# EAGLE library part ?M11B-SRSS-TB (library con-jst)
Disconnectable Crimp style connector, 1.0mm pitch 11 contacts
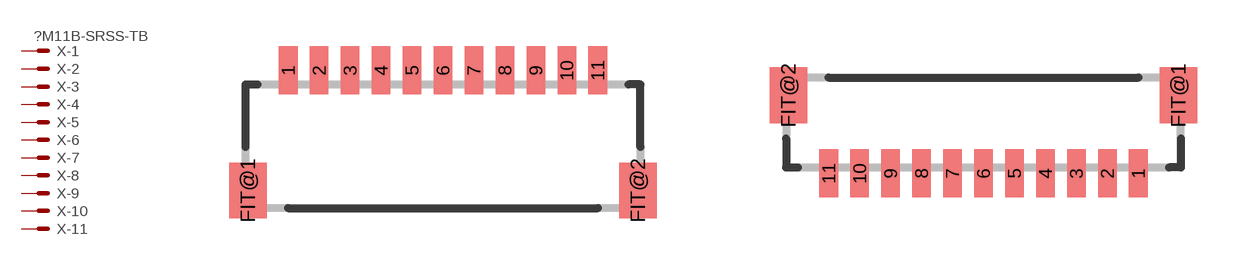
[diagram p27: symbol with the pads of SM11B-SRSS-TB; footprints SM11B-SRSS-TB, BM11B-SRSS-TB]

Designator prefix X; gates -1=KV -2=K -3=K -4=K -5=K -6=K -7=K -8=K -9=K -10=K -11=K

## SM11B-SRSS-TB  [SM11B-SRSS-TB]
1  -1:S  pas
2  -2:S  pas
3  -3:S  pas
4  -4:S  pas
5  -5:S  pas
6  -6:S  pas
7  -7:S  pas
8  -8:S  pas
9  -9:S  pas
10  -10:S  pas
11  -11:S  pas

## BM11B-SRSS-TB  [BM11B-SRSS-TB]
Pads as for SM11B-SRSS-TB

## Footprint SM11B-SRSS-TB (pad centres in mm)
Shrouded Header, side entry type
smd 0.6 x 1.55: 1 -5,2.975; 2 -4,2.975; 3 -3,2.975; 4 -2,2.975; 5 -1,2.975; 6 0,2.975; 7 1,2.975; 8 2,2.975; 9 3,2.975; 10 4,2.975; 11 5,2.975
smd 1.2 x 1.8: FIT@1 -6.3,-0.9; FIT@2 6.3,-0.9

## Footprint BM11B-SRSS-TB (pad centres in mm)
Shrouded Header, top entry type
smd 0.6 x 1.55: 1 5,-1.625; 2 4,-1.625; 3 3,-1.625; 4 2,-1.625; 5 1,-1.625; 6 0,-1.625; 7 -1,-1.625; 8 -2,-1.625; 9 -3,-1.625; 10 -4,-1.625; 11 -5,-1.625
smd 1.2 x 1.8: FIT@1 6.3,0.9; FIT@2 -6.3,0.9